# Altium schematic symbol library Sensors.SCHLIB: 3 symbols
Pins are listed as number, name and electrical type; pins without a type are passive.

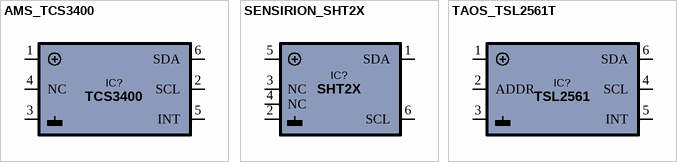
[diagram p0: symbols AMS_TCS3400 to TAOS_TSL2561T]

## AMS_TCS3400
designator IC?  value TCS3400
General symbol for TCS3400
pins: 1 VDD, 2 SCL, 3 GND, 4 NC, 5 INT, 6 SDA

## SENSIRION_SHT2X
designator IC?  value SHT2X
General symbol for SHT2X
pins: 1 SDA, 2 VSS, 3 NC, 4 NC, 5 VDD, 6 SCL

## TAOS_TSL2561T
designator IC?  value TSL2561
General symbol for TSL2561
pins: 1 VDD, 2 ADDR, 3 GND, 4 SCL, 5 INT, 6 SDA